# EAGLE library part I__74*190 (library ..SMD)
Synchronous UP/DOWN COUNTER
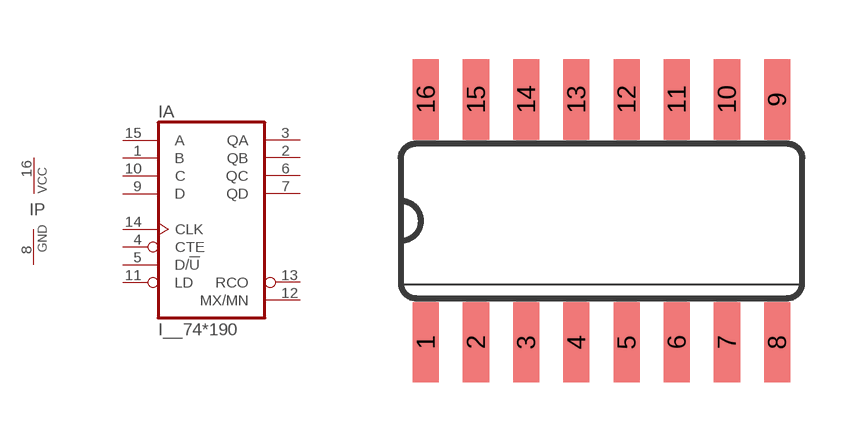
[diagram p234: symbol with the pads of SO16; footprint SO16]

Designator prefix I; gates A=74190 P=PWRN-2

## I__74HC190D, I__74HCT190D  [SO16]
1  A:B  in
2  A:QB  out
3  A:QA  out
4  A:CTE  in
5  A:D/!U  in
6  A:QC  out
7  A:QD  out
8  P:GND  pwr
9  A:D  in
10  A:C  in
11  A:LD  in
12  A:MX/MN  out
13  A:RCO  out
14  A:CLK  in
15  A:A  in
16  P:VCC  pwr

## Footprint SO16 (pad centres in mm)
Small Outline Package 16
smd 0.66 x 2.032: 1 -4.445,-3.073; 2 -3.175,-3.073; 3 -1.905,-3.073; 4 -0.635,-3.073; 5 0.635,-3.073; 6 1.905,-3.073; 7 3.175,-3.073; 8 4.445,-3.073; 9 4.445,3.073; 10 3.175,3.073; 11 1.905,3.073; 12 0.635,3.073; 13 -0.635,3.073; 14 -1.905,3.073; 15 -3.175,3.073; 16 -4.445,3.073